# Altium schematic symbol library SLF1045.Schlib: 1 symbol
Pins are listed as number, name and electrical type; pins without a type are passive.

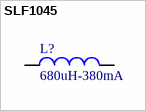
[diagram p0: symbol SLF1045]

## SLF1045
designator L?, comment 680uH-380mA
Power Inductor
pins: 1, 2